# Altium footprint library 19C2830103-JOB.PcbLib: 69 footprints (part 3 of 6)
Each footprint in its own frame and in the unit in brackets; x right, y up, seen from the top. Pads: shape width x height; smd on the part's side, far side on the other; paste and mask are expansions set on the pad; w line width, h text height; cw(c..) or ccw(c..) is an arc to the next point about the centre after c.
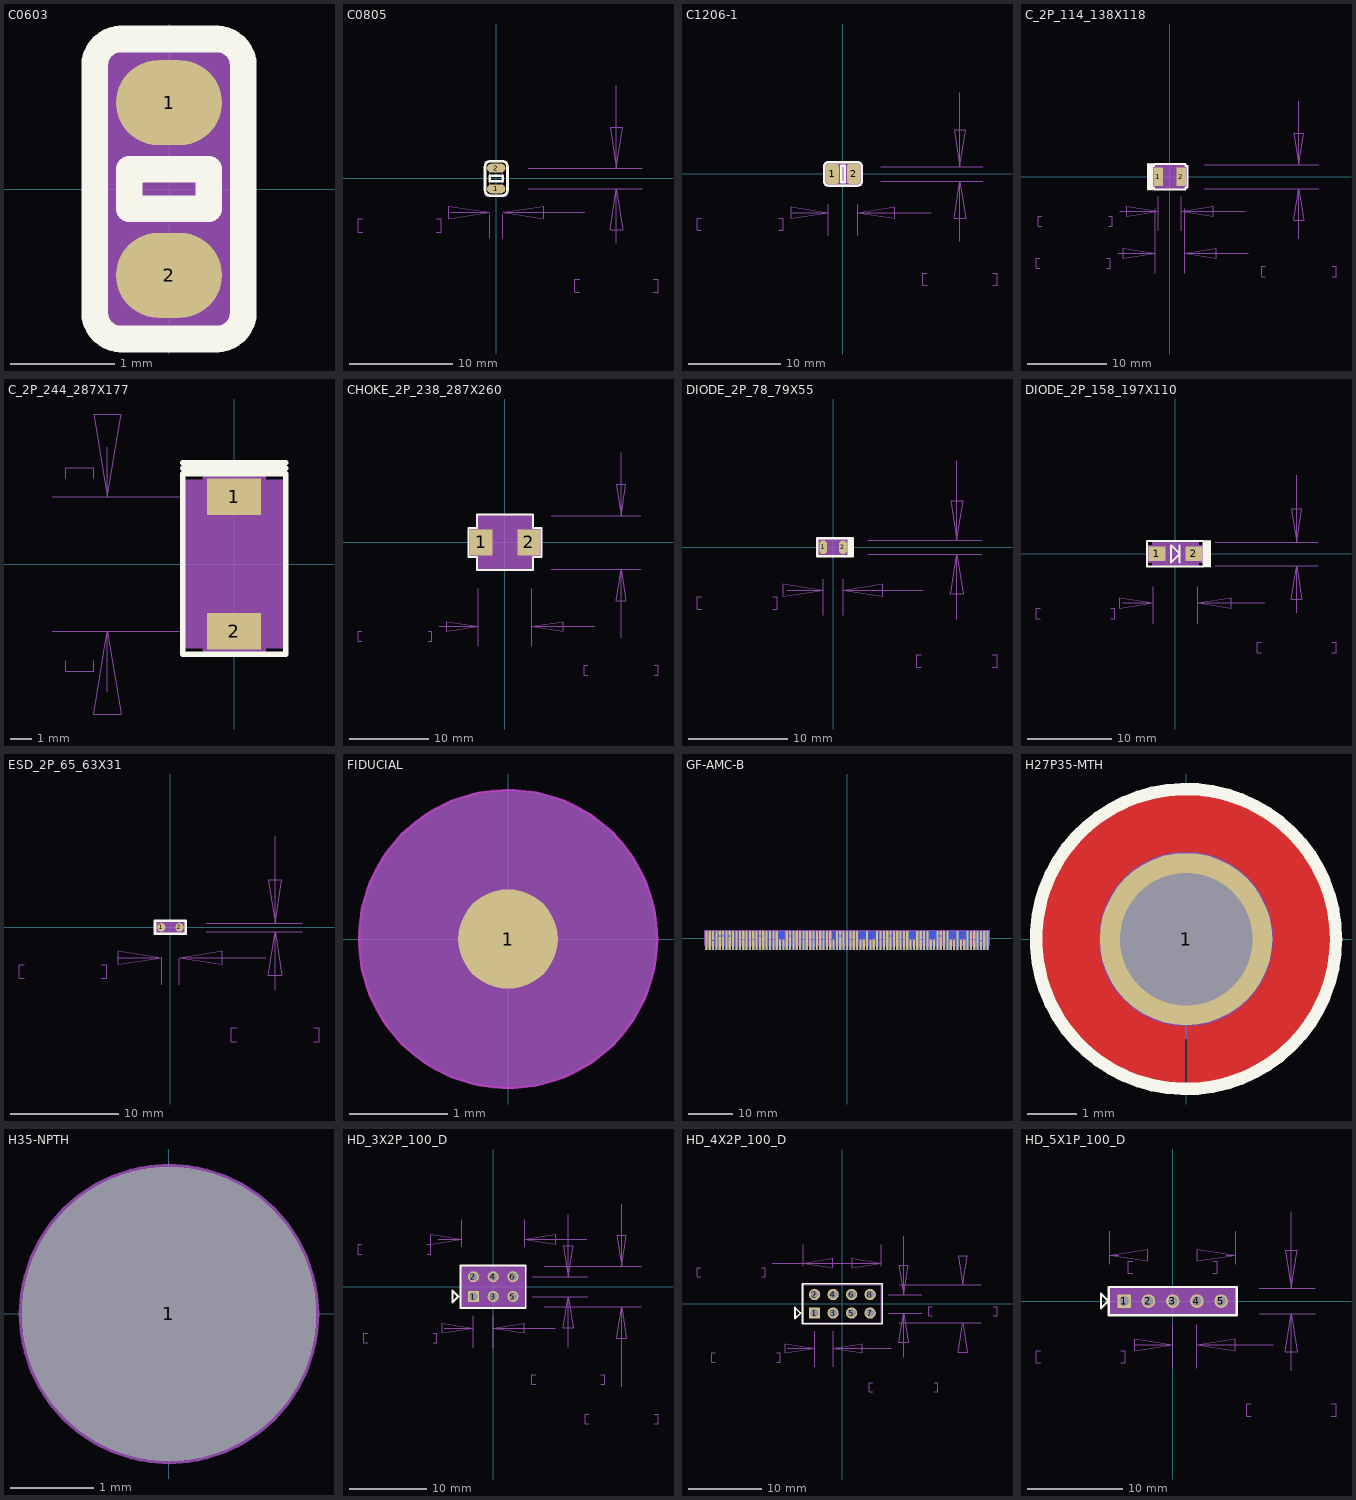
[diagram p2: the footprints below, top view; thin cyan lines are the x and y axes]

## C0603 [mil] "C0603"
pads (2):
  oval 40x32 smd: 1(0,32.5) 2(0,-32.5)
Top Overlay:
  lines w10: -28,-46.5 ccw(c-18,-46.5) -18,-56.5 18,-56.5 ccw(c18,-46.5) 28,-46.5 28,46.5 ccw(c18,46.5) 18,56.5 -18,56.5 ccw(c-18,46.5) -28,46.5 -28,-46.5 ; -15,-7.5 15,-7.5 15,7.5 -15,7.5 -15,-7.5
Mechanical 15:
  text "2" at 0,-43.7 h28
  text "1" at 0,21.3 h28
Mechanical 16:
  pour cut-out: 28,56.5 28,-56.5 -28,-56.5 -28,56.5
  region: -17.13,-33.46 17.13,-33.46 17.13,33.46 -17.13,33.46
  lines w1: -17.13,-33.46 17.13,-33.46 17.13,33.46 -17.13,33.46 -17.13,-33.46
3D body: height 150, standoff 0, extent -17.13,-33.46 17.13,33.46

## C0805 [mil] "C0805"
pads (2):
  oval 70x35 smd: 1(0,-40) 2(0,40)
Top Overlay:
  lines w10: -43,-45.5 ccw(c-23,-45.5) -23,-65.5 23,-65.5 ccw(c23,-45.5) 43,-45.5 43,45.5 ccw(c23,45.5) 23,65.5 -23,65.5 ccw(c-23,45.5) -43,45.5 -43,-45.5 ; -25,-10 -25,10 25,10 25,-10 -25,-10
Mechanical 15:
  text "1" at -11.2,-40 h28
  text "2" at -11.2,40 h28
Mechanical 16:
  lines w1: -510,-205 -529,-205 -529,-155 -510,-155 ; -230,-205 -211,-205 -211,-155 -230,-155 ; -173.5,-130 -24.61,-130 ; -24.61,-228.43 -24.61,-137.8 ; 24.61,-228.43 24.61,-137.8 ; 123.04,-39.37 558.43,-39.37 ; 123.04,39.37 558.43,39.37 ; 320,-435 301,-435 301,-385 320,-385 ; 339.57,-130 24.61,-130 ; 460,-247.5 460,-39.37 ; 460,354.33 460,39.37 ; 600,-435 619,-435 619,-385 600,-385 ; -24.61,-130 -182.09,-154.6 -182.09,-105.4 -24.61,-130 ; -24.61,-39.37 24.61,-39.37 ; -24.61,-39.37 -24.61,39.37 ; -24.61,-39.37 -24.61,39.37 ; -24.61,-39.37 24.61,-39.37 ; -24.61,39.37 24.61,39.37 ; -24.61,39.37 24.61,39.37 ; 24.61,-130 182.09,-105.4 182.09,-154.6 24.61,-130 ; 24.61,-39.37 24.61,39.37 ; 24.61,-39.37 24.61,39.37 ; 460,-39.37 484.6,-196.85 435.4,-196.85 460,-39.37 ; 460,39.37 435.4,196.85 484.6,196.85 460,39.37 ; -43,-65.5 43,-65.5 43,65.5 -43,65.5 -43,-65.5
Mechanical 17:
  text "1.25" at -465.5,-105 h36
  text "49.22" at -491,-205 h36
  text "2" at 441,-335 h36
  text "78.74" at 339,-435 h36

## C1206-1 [mil] "C1206-1"
pads (2):
  rrect36% 55x85 smd: 1(-45.28,0) 2(45.28,0)
Top Overlay:
  lines w10: -80.78,-30.5 ccw(c-60.78,-30.5) -60.78,-50.5 60.78,-50.5 ccw(c60.78,-30.5) 80.78,-30.5 80.78,30.5 ccw(c60.78,30.5) 60.78,50.5 -60.78,50.5 ccw(c-60.78,30.5) -80.78,30.5 -80.78,-30.5 ; -7.87,-35 -7.87,35 7.87,35 7.87,-35 -7.87,-35
Mechanical 15:
  text "2" at 45.28,-10 h25
  text "1" at -45.28,-10 h25
Mechanical 16:
  pour cut-out: -80.78,-50.5 80.78,-50.5 80.78,50.5 -80.78,50.5
  region: -62.99,-31.5 62.99,-31.5 62.99,31.5 -62.99,31.5
  lines w1: -605.45,-240 -624.44,-240 -624.44,-190 -605.45,-190 ; -274.56,-240 -255.57,-240 -255.57,-190 -274.56,-190 ; -218.07,-165 -62.99,-165 ; -62.99,-263.43 -62.99,-129.93 ; 62.99,-263.43 62.99,-129.93 ; 161.42,-31.5 598.43,-31.5 ; 161.42,31.5 598.43,31.5 ; 360.04,-475 341.05,-475 341.05,-425 360.04,-425 ; 377.95,-165 62.99,-165 ; 500,-287.5 500,-31.5 ; 500,346.46 500,31.5 ; 639.95,-475 658.94,-475 658.94,-425 639.95,-425 ; -62.99,-165 -220.47,-189.6 -220.47,-140.4 -62.99,-165 ; 62.99,-165 220.47,-140.4 220.47,-189.6 62.99,-165 ; 500,-31.5 524.6,-188.98 475.4,-188.98 500,-31.5 ; 500,31.5 475.4,188.98 524.6,188.98 500,31.5 ; -62.99,-31.5 -62.99,31.5 62.99,31.5 62.99,-31.5 -62.99,-31.5
Mechanical 17:
  text "3.2" at -509.98,-140 h50
  text "125.98" at -586.45,-240 h50
  text "1.6" at 430.02,-375 h50
  text "63.00" at 379.04,-475 h50
3D body: height 150, standoff 0, extent -62.99,-31.5 62.99,31.5

## C_2P_114_138X118 [mil] "C_2P_114_138X118"
pads (2):
  rect 47x91 smd: 1(-57.02,0) 2(57.02,0)
Top Overlay:
  lines w10: -108.52,-53.5 -108.52,53.5 ; -98.52,-53.5 -98.52,53.5 ; -97.83,-64.06 -97.83,-53.5 ; -97.83,53.5 -97.83,64.06 ; -87.83,-64.06 -87.83,-53.5 ; -87.83,53.5 -87.83,64.06 ; -88.52,-53.5 -77.83,-53.5 ; -88.52,-53.5 -88.52,53.5 ; -88.52,-53.5 -88.52,53.5 ; -88.52,53.5 -77.83,53.5 ; -77.83,-64.06 -77.83,-53.5 ; -77.83,-64.06 77.83,-64.06 77.83,-53.5 88.52,-53.5 88.52,53.5 77.83,53.5 77.83,64.06 -77.83,64.06 ; -77.83,-64.06 -77.83,-53.5 ; -77.83,53.5 -77.83,64.06 ; -77.83,53.5 -77.83,64.06 ; -107.83,-64.06 -107.83,-53.5 -107.83,-64.06 ; -107.83,53.5 -107.83,64.06 -107.83,53.5
Mechanical 15:
  text "1" at -57.02,-10 h25
  text "2" at 57.02,-10 h25
Mechanical 16:
  pour cut-out: 77.83,64.06 77.83,53.5 88.52,53.5 88.52,-53.5 77.83,-53.5 77.83,-64.06 -77.83,-64.06 -77.83,-53.5 -88.52,-53.5 -88.52,53.5 -77.83,53.5 -77.83,64.06
  region: -72.83,-59.06 72.83,-59.06 72.83,59.06 -72.83,59.06
  lines w1: -645.5,-455 -664.5,-455 -664.5,-405 -645.5,-405 ; -635.5,-245 -654.5,-245 -654.5,-195 -635.5,-195 ; -314.5,-455 -295.5,-455 -295.5,-405 -314.5,-405 ; -304.5,-245 -285.5,-245 -285.5,-195 -304.5,-195 ; -258,-380 -72.83,-380 ; -248,-170 -57.02,-170 ; -72.83,-478.43 -72.83,-157.48 ; -57.02,-268.43 -57.02,-98.43 ; 57.02,-268.43 57.02,-98.43 ; 72.83,-478.43 72.83,-157.48 ; 171.26,-59.06 738.43,-59.06 ; 171.26,59.06 738.43,59.06 ; 371.98,-170 57.02,-170 ; 387.8,-380 72.83,-380 ; 474.5,-495 455.5,-495 455.5,-445 474.5,-445 ; 640,-307.5 640,-59.06 ; 640,374.02 640,59.06 ; 805.5,-495 824.5,-495 824.5,-445 805.5,-445 ; -72.83,-380 -230.31,-404.61 -230.31,-355.39 -72.83,-380 ; -57.02,-170 -214.5,-194.61 -214.5,-145.39 -57.02,-170 ; 57.02,-170 214.5,-145.39 214.5,-194.61 57.02,-170 ; 72.83,-380 230.31,-355.39 230.31,-404.61 72.83,-380 ; 640,-59.06 664.61,-216.54 615.39,-216.54 640,-59.06 ; 640,59.06 615.39,216.54 664.61,216.54 640,59.06 ; -72.83,-59.06 -72.83,59.06 72.83,59.06 72.83,-59.06 -72.83,-59.06
Mechanical 17:
  text "2.9" at -540,-145 h50
  text "114.05" at -616.5,-245 h50
  text "3.7" at -550,-355 h50
  text "145.67" at -626.5,-455 h50
  text "3" at 621,-395 h50
  text "118.11" at 493.5,-495 h50
3D body: height 150, standoff 0, extent -72.83,-59.06 72.83,59.06

## C_2P_244_287X177 [mil] "C_2P_244_287X177"
pads (2):
  rect 98x67 smd: 1(0,121.98) 2(0,-121.98)
Top Overlay:
  lines w10: -93.58,173.48 93.58,173.48 ; -93.58,183.48 93.58,183.48 ; -93.58,163.48 93.58,163.48 ; -93.58,163.48 -93.58,-163.48 93.58,-163.48 93.58,163.48 ; -93.58,163.48 93.58,163.48
Mechanical 15:
  text "1" at 10,121.98 h25
  text "2" at 10,-121.98 h25
Mechanical 16:
  pour cut-out: 57,163.48 57,152.64 93.58,152.64 93.58,-152.64 57,-152.64 57,-163.48 -57,-163.48 -57,-152.64 -93.58,-152.64 -93.58,152.64 -57,152.64 -57,163.48
  region: -88.58,147.64 -88.58,-147.64 88.58,-147.64 88.58,147.64
  lines w1: -330,-121.98 -100,-121.98 ; -330,121.98 -100,121.98 ; -305,-175.5 -305,-194.5 -255,-194.5 -255,-175.5 ; -305,155.5 -305,174.5 -255,174.5 -255,155.5 ; -230,-232 -230,-121.98 ; -230,212 -230,121.98 ; -230,-121.98 -205,-271.98 -255,-271.98 -230,-121.98 ; -230,121.98 -255,271.98 -205,271.98 -230,121.98 ; -88.58,-147.64 88.58,-147.64 88.58,147.64 -88.58,147.64 -88.58,-147.64
Mechanical 17:
  text "6.2" at -205,60 h50
  text "243.97" at -305,136.5 h50
3D body: height 150, standoff 0, extent -88.58,-147.64 88.58,147.64

## CHOKE_2P_238_287X260 [mil] "CHOKE_2P_238_287X260"
pads (2):
  rect 112x130 smd: 1(-119.03,0) 2(119.03,0)
Top Overlay:
  lines w10: -183.03,-73 -138.86,-73 -138.86,-138.86 138.86,-138.86 138.86,-73 183.03,-73 183.03,73 138.86,73 138.86,138.86 -138.86,138.86 -138.86,73 -183.03,73 -183.03,-73
Mechanical 15:
  text "1" at -107.83,0 h28
  text "2" at 130.23,0 h28
Mechanical 16:
  pour cut-out: 138.86,138.86 138.86,73 183.03,73 183.03,-73 138.86,-73 138.86,-138.86 -138.86,-138.86 -138.86,-73 -183.03,-73 -183.03,73 -138.86,73 -138.86,138.86
  region: -133.86,-133.86 133.86,-133.86 133.86,133.86 -133.86,133.86
  lines w1: -715.5,-495 -734.5,-495 -734.5,-445 -715.5,-445 ; -384.5,-495 -365.5,-495 -365.5,-445 -384.5,-445 ; -328,-420 -133.86,-420 ; -133.86,-518.43 -133.86,-232.29 ; 133.86,-518.43 133.86,-232.29 ; 232.29,-133.86 678.43,-133.86 ; 232.29,133.86 678.43,133.86 ; 414.5,-665 395.5,-665 395.5,-615 414.5,-615 ; 448.82,-420 133.86,-420 ; 580,-477.5 580,-133.86 ; 580,448.82 580,133.86 ; 745.5,-665 764.5,-665 764.5,-615 745.5,-615 ; -133.86,-420 -291.34,-444.6 -291.34,-395.4 -133.86,-420 ; 133.86,-420 291.34,-395.4 291.34,-444.6 133.86,-420 ; 580,-133.86 604.6,-291.34 555.4,-291.34 580,-133.86 ; 580,133.86 555.4,291.34 604.6,291.34 580,133.86 ; -133.86,-133.86 133.86,-133.86 133.86,133.86 -133.86,133.86 -133.86,-133.86
Mechanical 17:
  text "6.8" at -620,-395 h36
  text "267.72" at -696.5,-495 h36
  text "6.8" at 510,-565 h36
  text "267.72" at 433.5,-665 h36
3D body: height 150, standoff 0, extent -133.86,-133.86 133.86,133.86

## DIODE_2P_78_79X55 [mil] "DIODE_2P_78_79X55"
pads (2):
  oval 31x55 smd: 1(-39.14,0) 2(39.14,0)
Top Overlay:
  lines w10: 67.64,-35.5 67.64,35.5 ; 72.64,-35.5 72.64,35.5 ; 77.64,-35.5 77.64,35.5 ; 62.64,-35.5 62.64,35.5 ; 62.64,-35.5 -62.64,-35.5 -62.64,35.5 62.64,35.5 ; 62.64,-35.5 62.64,35.5
Mechanical 15:
  text "1" at -39.14,11.2 h28
  text "2" at 39.14,11.2 h28
Mechanical 16:
  pour cut-out: -62.64,-35.5 -62.64,35.5 62.64,35.5 62.64,-35.5
  region: -39.37,-27.56 -39.37,27.56 39.37,27.56 39.37,-27.56
  lines w1: -520,-245 -539,-245 -539,-195 -520,-195 ; -240,-245 -221,-245 -221,-195 -240,-195 ; -183.5,-170 -39.37,-170 ; -39.37,-268.43 -39.37,-125.98 ; 39.37,-268.43 39.37,-125.98 ; 137.8,-27.56 588.43,-27.56 ; 137.8,27.56 588.43,27.56 ; 350,-475 331,-475 331,-425 350,-425 ; 354.33,-170 39.37,-170 ; 490,-287.5 490,-27.56 ; 490,342.52 490,27.56 ; 630,-475 649,-475 649,-425 630,-425 ; -39.37,-170 -196.85,-194.61 -196.85,-145.39 -39.37,-170 ; 39.37,-170 196.85,-145.39 196.85,-194.61 39.37,-170 ; 490,-27.56 514.61,-185.04 465.39,-185.04 490,-27.56 ; 490,27.56 465.39,185.04 514.61,185.04 490,27.56 ; -39.37,-27.56 39.37,-27.56 39.37,27.56 -39.37,27.56 -39.37,-27.56
Mechanical 17:
  text "2" at -399,-145 h36
  text "78.74" at -501,-245 h36
  text "1.4" at 420,-375 h36
  text "55.12" at 369,-475 h36
3D body: height 150, standoff 0, extent -39.37,-27.56 39.37,27.56

## DIODE_2P_158_197X110 [mil] "DIODE_2P_158_197X110"
pads (2):
  rect 78x67 smd: 1(-86.45,0) 2(86.45,0)
Top Overlay:
  lines w10: 20,-40 20,40 ; 133.45,-41.5 133.45,41.5 ; 143.45,-59.92 143.45,59.92 ; 153.45,-59.92 153.45,59.92 ; 163.45,-59.92 163.45,59.92 ; -133.45,-59.92 -123.45,-59.92 133.45,-59.92 133.45,-49.92 133.45,59.92 123.45,59.92 -133.45,59.92 -133.45,49.92 -133.45,-59.92 ; -20,-40 -20,40 20,0 -20,-40
Mechanical 15:
  text "2" at 86.45,11.2 h28
  text "1" at -86.45,11.2 h28
Mechanical 16:
  pour cut-out: 109.53,59.92 109.53,41.5 133.45,41.5 133.45,-41.5 109.53,-41.5 109.53,-59.92 -109.53,-59.92 -109.53,-41.5 -133.45,-41.5 -133.45,41.5 -109.53,41.5 -109.53,59.92
  region: -104.53,-54.92 104.53,-54.92 104.53,54.92 -104.53,54.92
  lines w1: -635.5,-305 -654.5,-305 -654.5,-255 -635.5,-255 ; -304.5,-305 -285.5,-305 -285.5,-255 -304.5,-255 ; -248,-230 -104.53,-230 ; -104.53,-328.43 -104.53,-153.35 ; 104.53,-328.43 104.53,-153.35 ; 188.39,-54.92 668.43,-54.92 ; 188.39,54.92 668.43,54.92 ; 404.5,-465 385.5,-465 385.5,-415 404.5,-415 ; 419.49,-230 104.53,-230 ; 570,-277.5 570,-54.92 ; 570,369.88 570,54.92 ; 735.5,-465 754.5,-465 754.5,-415 735.5,-415 ; -104.53,-230 -262.01,-254.61 -262.01,-205.39 -104.53,-230 ; 104.53,-230 262.01,-205.39 262.01,-254.61 104.53,-230 ; 570,-54.92 594.61,-212.4 545.39,-212.4 570,-54.92 ; 570,54.92 545.39,212.4 594.61,212.4 570,54.92 ; -104.53,-54.92 -104.53,54.92 104.53,54.92 104.53,-54.92 -104.53,-54.92
Mechanical 17:
  text "209.06" at -616.5,-305 h36
  text "5.31" at -565.5,-205 h36
  text "109.84" at 423.5,-465 h36
  text "2.79" at 474.5,-365 h36
3D body: height 150, standoff 0, extent -104.53,-54.92 104.53,54.92

## ESD_2P_65_63X31 [mil] "ESD_2P_65_63X31"
pads (2):
  oval 30x31 smd: 1(-32.7,0) 2(32.7,0)
Top Overlay:
  lines w10: -55.7,-23.5 55.7,-23.5 55.7,23.5 -55.7,23.5 -55.7,-23.5
Mechanical 15:
  text "2" at 32.7,11.2 h28
  text "1" at -32.7,11.2 h28
Mechanical 16:
  pour cut-out: -55.7,-23.5 55.7,-23.5 55.7,23.5 -55.7,23.5
  region: -31.5,-15.49 31.5,-15.49 31.5,15.49 -31.5,15.49
  lines w1: -530,-185 -549,-185 -549,-135 -530,-135 ; -250,-185 -231,-185 -231,-135 -250,-135 ; -193.5,-110 -31.5,-110 ; -31.5,-208.43 -31.5,-113.92 ; 31.5,-208.43 31.5,-113.92 ; 129.92,-15.49 478.43,-15.49 ; 129.92,15.49 478.43,15.49 ; 240,-415 221,-415 221,-365 240,-365 ; 346.46,-110 31.5,-110 ; 380,-227.5 380,-15.49 ; 380,330.45 380,15.49 ; 520,-415 539,-415 539,-365 520,-365 ; -31.5,-110 -188.98,-134.61 -188.98,-85.39 -31.5,-110 ; 31.5,-110 188.98,-85.39 188.98,-134.61 31.5,-110 ; 380,-15.49 404.61,-172.97 355.39,-172.97 380,-15.49 ; 380,15.49 355.39,172.97 404.61,172.97 380,15.49 ; -31.5,-15.49 -31.5,15.49 31.5,15.49 31.5,-15.49 -31.5,-15.49
Mechanical 17:
  text "30.98" at 259,-415 h36
  text "0.787" at 259,-315 h36
  text "62.99" at -511,-185 h36
  text "1.6" at -460,-85 h36
3D body: height 150, standoff 0, extent -31.5,-15.49 31.5,15.49

## FIDUCIAL [mil] "FIDUCIAL"
pads (1):
  round 40 smd: 1(0,0)
Top Layer keep-out:
  circle w1: c0,0 r60
Mechanical 15:
  text "1" at -10,-10 h25
Mechanical 16:
  pour cut-out: 60.29,0 59.13,11.76 55.7,23.07 50.13,33.5 42.63,42.63 33.5,50.13 23.07,55.7 11.76,59.13 0,60.29 -11.76,59.13 -23.07,55.7 -33.5,50.13 -42.63,42.63 -50.13,33.5 -55.7,23.07 -59.13,11.76 -60.29,0 -59.13,-11.76 -55.7,-23.07 -50.13,-33.5 -42.63,-42.63 -33.5,-50.13 -23.07,-55.7 -11.76,-59.13 0,-60.29 11.76,-59.13 23.07,-55.7 33.5,-50.13 42.63,-42.63 50.13,-33.5 55.7,-23.07 59.13,-11.76
  pour cut-out: 60.29,0 59.13,11.76 55.7,23.07 50.13,33.5 42.63,42.63 33.5,50.13 23.07,55.7 11.76,59.13 0,60.29 -11.76,59.13 -23.07,55.7 -33.5,50.13 -42.63,42.63 -50.13,33.5 -55.7,23.07 -59.13,11.76 -60.29,0 -59.13,-11.76 -55.7,-23.07 -50.13,-33.5 -42.63,-42.63 -33.5,-50.13 -23.07,-55.7 -11.76,-59.13 0,-60.29 11.76,-59.13 23.07,-55.7 33.5,-50.13 42.63,-42.63 50.13,-33.5 55.7,-23.07 59.13,-11.76
Multi-Layer keep-out:
  circle w1: c0,0 r60
3D body: height 150, standoff 0, extent -60.29,-60.29 60.29,60.29

## GF-AMC-B [mil] "GF-AMC-B"
pads (260):
  rect 19x165 smd: 1(-1240.16,-21.5) 2(-1210.63,-21.5) 4(-1151.57,-21.5) 7(-1062.99,-21.5) 9(-1003.94,-21.5) 10(-974.41,-21.5) 13(-885.83,-21.5) 16(-797.24,-21.5) 18(-738.19,-21.5) 19(-708.66,-21.5) 22(-620.08,-21.5) 25(-531.5,-21.5) 27(-472.44,-21.5) 28(-442.91,-21.5) 31(-354.33,-21.5) 34(-265.75,-21.5) 37(-177.17,-21.5) 40(-88.58,-21.5) 42(-29.53,-21.5) 43(0,-21.5) 46(88.58,-21.5) 49(177.17,-21.5) 52(265.75,-21.5) 55(354.33,-21.5) 57(413.39,-21.5) 58(442.91,-21.5) 61(531.5,-21.5) 64(620.08,-21.5) 67(708.66,-21.5) 70(797.24,-21.5) 72(856.3,-21.5) 73(885.83,-21.5) 76(974.41,-21.5) 79(1062.99,-21.5) 82(1151.57,-21.5) 84(1210.63,-21.5) 85(1240.16,-21.5)
  rect 19x78 smd: 3(-1181.06,-64.93) 83(1181.09,-65.01)
  rect 19x119 smd: 5(-1122.01,-44.52) 6(-1092.49,-44.52) 8(-1033.41,-44.52) 17(-767.8,-44.51) 26(-501.89,-44.43) 41(-59.04,-44.43) 56(383.82,-44.44) 71(826.83,-44.44)
  rect 19x90 smd: 11(-944.88,-59) 12(-915.31,-59) 14(-856.23,-58.99) 15(-826.78,-58.99) 20(-679.06,-58.99) 21(-649.61,-58.99) 23(-590.55,-59) 24(-560.94,-59) 29(-413.39,-59) 30(-383.94,-59) 32(-324.72,-59) 33(-295.28,-59) 35(-236.21,-59) 36(-206.76,-59) 38(-147.71,-59) 39(-118.1,-59) 44(29.47,-59) 45(59.08,-59) 47(118.13,-59) 48(147.58,-59) 50(206.64,-59) 51(236.25,-59) 53(295.31,-59) 54(324.76,-59) 59(472.48,-59) 60(501.93,-59) 62(560.98,-59) 63(590.59,-59) 65(649.65,-59) 66(679.1,-59) 68(738.16,-59) 69(767.77,-59) 74(915.33,-59) 75(944.94,-59) 77(1004,-59) 78(1033.45,-59) 80(1092.51,-59) 81(1122.12,-59)
  rect 19x165 smd far side: 86(1240.16,-21.5) 89(1151.57,-21.5) 92(1062.99,-21.5) 95(974.41,-21.5) 98(885.83,-21.5) 101(797.24,-21.5) 104(708.66,-21.5) 107(620.08,-21.5) 110(531.5,-21.5) 113(442.91,-21.5) 116(354.33,-21.5) 119(265.75,-21.5) 122(177.17,-21.5) 125(88.58,-21.5) 128(0,-21.5) 131(-88.58,-21.5) 134(-177.17,-21.5) 137(-265.75,-21.5) 140(-354.33,-21.5) 143(-442.91,-21.5) 146(-531.5,-21.5) 149(-620.08,-21.5) 152(-708.66,-21.5) 155(-797.24,-21.5) 158(-885.83,-21.5) 161(-974.41,-21.5) 164(-1062.99,-21.5) 170(-1240.16,-21.5)
  rect 19x90 smd far side: 87(1210.62,-59) 88(1181.1,-59) 90(1122.05,-59) 91(1092.52,-59) 93(1033.47,-59) 94(1003.94,-59) 96(944.89,-59) 97(915.36,-59) 99(856.31,-59) 100(826.78,-59) 102(767.69,-59) 103(738.2,-59) 105(679.18,-58.99) 106(649.62,-58.99) 108(590.59,-59) 109(561.03,-59) 111(501.98,-59) 112(472.45,-59) 114(413.42,-59.01) 115(383.84,-59.01) 117(324.77,-58.99) 118(295.26,-58.99) 120(236.2,-59) 121(206.67,-59) 123(147.62,-59) 124(118.08,-59) 126(59.04,-59) 127(29.5,-59) 129(-29.59,-59) 130(-59.1,-59) 132(-118.17,-59) 133(-147.69,-59) 135(-206.71,-59) 136(-236.2,-59) 138(-295.26,-59) 139(-324.78,-59) 141(-383.84,-59) 142(-413.36,-59) 144(-472.45,-59.01) 145(-501.94,-59.01) 147(-561.03,-59) 148(-590.52,-59) 150(-649.58,-59) 151(-679.11,-59) 153(-738.12,-59) 154(-767.69,-59) 156(-826.74,-59) 157(-856.27,-59) 159(-915.3,-59) 160(-944.85,-59) 162(-1003.9,-59) 163(-1033.43,-59)
  rect 19x119 smd far side: 165(-1092.49,-44.51) 166(-1122.01,-44.51) 167(-1151.54,-44.52) 168(-1181.07,-44.52) 169(-1210.59,-44.52)
  rect 19x38 smd far side: " "(-1210.59,41.98) " "(-1181.06,41.98) " "(-1151.54,41.98) " "(-1122.01,41.99) " "(-1092.47,41.99)
  rect 19x79 smd: " "(-1181.14,21.57) " "(1181.11,21.49)
  rect 19x38 smd: " "(-1121.99,41.98) " "(-1092.46,41.98) " "(-1033.41,41.98) " "(-767.72,41.99) " "(-501.89,42.07) " "(-59.04,42.07) " "(383.82,42.06) " "(826.82,42.06)
  rect 19x67 smd far side: " "(-1033.43,27.5) " "(-1003.9,27.5) " "(-944.9,27.5) " "(-915.29,27.5) " "(-856.23,27.5) " "(-826.78,27.5) " "(-767.74,27.5) " "(-738.13,27.5) " "(-679.06,27.5) " "(-649.61,27.5) " "(-590.56,27.5) " "(-560.95,27.5) " "(-501.89,27.49) " "(-472.44,27.49) " "(-413.39,27.5) " "(-383.94,27.5) " "(-324.72,27.5) " "(-295.27,27.5) " "(-236.21,27.5) " "(-206.76,27.5) " "(-147.71,27.5) " "(-118.1,27.5) " "(-59.04,27.5) " "(-29.59,27.5) " "(29.47,27.5) " "(59.08,27.5) " "(118.13,27.5) " "(147.58,27.5) " "(206.64,27.5) " "(236.25,27.5) " "(295.31,27.51) " "(324.76,27.51) " "(383.82,27.49) " "(413.42,27.49) " "(472.49,27.5) " "(501.94,27.5) " "(560.99,27.5) " "(590.6,27.5) " "(649.66,27.51) " "(679.11,27.51) " "(738.16,27.5) " "(767.77,27.5) " "(826.83,27.5) " "(856.28,27.5) " "(915.33,27.5) " "(944.94,27.5) " "(1004,27.5) " "(1033.45,27.5) " "(1092.51,27.5) " "(1122.12,27.5) " "(1181.11,27.5) " "(1210.63,27.5)
  rect 19x67 smd: " "(-944.85,27.5) " "(-915.32,27.5) " "(-856.24,27.51) " "(-826.79,27.51) " "(-679.07,27.51) " "(-649.62,27.51) " "(-413.38,27.5) " "(-383.93,27.5) " "(-324.71,27.5) " "(-295.26,27.5) " "(-236.22,27.5) " "(-206.77,27.5) " "(-147.7,27.5) " "(29.46,27.5) " "(59.07,27.5) " "(295.3,27.5) " "(324.75,27.5) " "(472.48,27.5) " "(501.93,27.5) " "(649.66,27.5) " "(679.11,27.5) " "(1092.5,27.5) " "(1122.11,27.5)
Top Solder:
  pour cut-out: -1263.74,88.78 -1263.74,-100.2 1263.75,-100.2 1263.75,88.78
Bottom Solder:
  pour cut-out: -1263.74,-100.2 1263.75,-100.2 1263.75,88.78 -1263.74,88.78
Mechanical 15:
  text "159" at -910,-139.43 h20
  text "160" at -940,-139.43 h20
  text "129" at -20,-139.48 h20
  text "130" at -50,-139.48 h20
  text "167" at -1140,-140 h20
  text "168" at -1170,-140 h20
  text "166" at -1110,-139.99 h20
  text "165" at -1080,-139.99 h20
  text "169" at -1200,-140 h20
  text "51" at 245,41.64 h20
  text "50" at 215,41.64 h20
  text "45" at 70,41.64 h20
  text "44" at 40,41.64 h20
  text "121" at 215,-139.48 h20
  text "118" at 305,-139.47 h20
  text "111" at 510,-139.44 h20
  text "115" at 390,-139.49 h20
  text "117" at 335,-139.47 h20
  text "112" at 480,-139.44 h20
  text "114" at 420,-139.45 h20
  text "120" at 245,-139.48 h20
  text "4" at -1140,52.5 h20
  text "72" at 870,41.5 h20
  text "57" at 425,41.5 h20
  text "42" at -20,41.5 h20
  text "27" at -460,41.5 h20
  text "18" at -730,41.5 h20
  text "9" at -995,52.5 h20
  text "2" at -1200,52.5 h20
  text "84" at 1220,41.5 h20
  text "139" at -315,-139.44 h20
  text "138" at -285,-139.44 h20
  text "136" at -230,-139.43 h20
  text "135" at -200,-139.48 h20
  text "77" at 1020,41.65 h20
  text "78" at 1050,41.65 h20
  text "74" at 930,41.64 h20
  text "75" at 960,41.64 h20
  text "71" at 840,41.15 h20
  text "56" at 395,41.15 h20
  text "80" at 1105,41.65 h20
  text "81" at 1130,41.65 h20
  text "3" at -1170,52.63 h20
  text "83" at 1190,41.07 h20
  text "26" at -490,41.17 h20
  text "17" at -760,41.09 h20
  text "5" at -1110,52 h20
  text "41" at -50,41.17 h20
  text "82" at 1160,41.5 h20
  text "89" at 1160,-133.5 h20
  text "86" at 1250,-133.5 h20
  text "85" at 1250,41.5 h20
  text "76" at 990,41.5 h20
  text "95" at 980,-133.5 h20
  text "92" at 1070,-133.5 h20
  text "79" at 1080,41.5 h20
  text "67" at 720,41.5 h20
  text "104" at 720,-139.5 h20
  text "70" at 810,41.5 h20
  text "101" at 800,-139.5 h20
  text "73" at 900,41.5 h20
  text "98" at 890,-133.5 h20
  text "64" at 630,41.5 h20
  text "107" at 630,-139.5 h20
  text "58" at 455,41.5 h20
  text "113" at 450,-139.5 h20
  text "61" at 540,41.5 h20
  text "110" at 540,-139.5 h20
  text "116" at 360,-139.5 h20
  text "55" at 365,41.5 h20
  text "52" at 275,41.5 h20
  text "119" at 275,-139.5 h20
  text "125" at 100,-139.5 h20
  text "46" at 100,41.5 h20
  text "134" at -170,-139.5 h20
  text "37" at -170,41.5 h20
  text "40" at -80,41.5 h20
  text "131" at -80,-139.5 h20
  text "128" at 10,-139.5 h20
  text "43" at 10,41.5 h20
  text "137" at -257.82,-138.99 h20
  text "34" at -260,41.5 h20
  text "25" at -520,41.5 h20
  text "146" at -524.46,-138.99 h20
  text "31" at -345,41.5 h20
  text "140" at -347.13,-139.95 h20
  text "28" at -430,41.5 h20
  text "143" at -435.15,-138.03 h20
  text "16" at -790,41.5 h20
  text "155" at -790,-139.5 h20
  text "149" at -611.85,-138.99 h20
  text "22" at -610,41.5 h20
  text "152" at -700,-139.5 h20
  text "19" at -700,41.5 h20
  text "161" at -970,-139.5 h20
  text "10" at -965,41.5 h20
  text "164" at -1052.95,-139.31 h20
  text "7" at -1050,52.5 h20
  text "13" at -875,41.5 h20
  text "158" at -880,-139.5 h20
  text "1" at -1230,52.5 h20
  text "170" at -1230,-139.5 h20
  text "49" at 185,41.5 h20
  text "122" at 185,-139.5 h20
  text "97" at 920,-133.44 h20
  text "96" at 950,-133.44 h20
  text "94" at 1010,-133.44 h20
  text "93" at 1040,-133.44 h20
  text "91" at 1100,-133.44 h20
  text "90" at 1130,-133.44 h20
  text "88" at 1190,-133.44 h20
  text "87" at 1220,-133.44 h20
  text "53" at 305,41.64 h20
  text "54" at 335,41.64 h20
  text "47" at 130,41.64 h20
  text "48" at 160,41.64 h20
  text "109" at 570,-139.44 h20
  text "108" at 600,-139.44 h20
  text "106" at 660,-139.43 h20
  text "105" at 690,-139.43 h20
  text "103" at 750,-139.44 h20
  text "102" at 775,-139.44 h20
  text "100" at 830,-139.44 h20
  text "99" at 860,-133.44 h20
  text "11" at -935,41.6 h20
  text "12" at -905,41.55 h20
  text "14" at -845,41.65 h20
  text "15" at -820,41.65 h20
  text "6" at -1080,52 h20
  text "162" at -995,-139.44 h20
  text "163" at -1025,-139.44 h20
  text "8" at -1025,52 h20
  text "156" at -820,-139.44 h20
  text "157" at -850,-139.44 h20
  text "153" at -730,-139.44 h20
  text "154" at -760,-139.44 h20
  text "148" at -580,-139.44 h20
  text "150" at -640,-139.44 h20
  text "151" at -670,-139.44 h20
  text "23" at -580,41.64 h20
  text "21" at -640,41.65 h20
  text "20" at -670,41.65 h20
  text "145" at -495,-139.44 h20
  text "147" at -550,-139.44 h20
  text "24" at -550,41.64 h20
  text "141" at -375,-139.44 h20
  text "142" at -405,-139.44 h20
  text "144" at -465,-139.44 h20
  text "29" at -405,41.64 h20
  text "30" at -375,41.64 h20
  text "33" at -285,41.64 h20
  text "32" at -315,41.64 h20
  text "36" at -200,41.64 h20
  text "35" at -230,41.64 h20
  text "132" at -110,-139.48 h20
  text "133" at -135,-139.48 h20
  text "39" at -110,41.64 h20
  text "38" at -140,41.64 h20
  text "124" at 125,-139.49 h20
  text "126" at 70,-139.49 h20
  text "127" at 40,-139.48 h20
  text "123" at 155,-139.49 h20
  text "60" at 510,41.64 h20
  text "59" at 480,41.64 h20
  text "63" at 600,41.64 h20
  text "62" at 570,41.64 h20
  text "66" at 690,41.64 h20
  text "65" at 660,41.64 h20
  text "69" at 780,41.64 h20
  text "68" at 750,41.64 h20
Mechanical 16:
  region: -1260,70 -1260,-60 -1250,-70 1250,-70 1260,-60 1260,70
Multi-Layer:
  region: -1263.74,88.78 1263.74,88.78 1263.74,-100.2 -1263.74,-100.2
3D body: height 150, standoff 0, extent -1260,-70 1260,70

## H27P35-MTH [mil] "H27P35-MTH"
pads (1):
  round 138 / inner round 118 / far side round 138 hole 106: 1(0,0)
Top Layer:
  region: -1,-69.99 -1,-120 -11.45,-119.45 -21.82,-118 -32.02,-115.65 -41.98,-112.42 -51.62,-108.33 -60.86,-103.42 -69.65,-97.72 -77.9,-91.28 -85.56,-84.14 -92.56,-76.37 -98.87,-68.01 -104.42,-59.13 -109.18,-49.81 -113.1,-40.1 -116.17,-30.09 -118.35,-19.85 -119.63,-9.46 -120,1 -119.45,11.45 -118,21.82 -115.65,32.02 -112.42,41.98 -108.33,51.62 -103.42,60.86 -97.72,69.65 -91.28,77.9 -84.14,85.56 -76.37,92.56 -68.01,98.87 -59.13,104.42 -49.81,109.18 -40.1,113.1 -30.09,116.17 -19.85,118.35 -9.46,119.63 1,120 11.45,119.45 21.82,118 32.02,115.65 41.98,112.42 51.62,108.33 60.86,103.42 69.65,97.72 77.9,91.28 85.56,84.14 92.56,76.37 98.87,68.01 104.42,59.13 109.18,49.81 113.1,40.1 116.17,30.09 118.35,19.85 119.63,9.46 120,-1 119.45,-11.45 118,-21.82 115.65,-32.02 112.42,-41.98 108.33,-51.62 103.42,-60.86 97.72,-69.65 91.28,-77.9 84.14,-85.56 76.37,-92.56 68.01,-98.87 59.13,-104.42 49.81,-109.18 40.1,-113.1 30.09,-116.17 19.85,-118.35 9.46,-119.63 1,-120 1,-69.99 7.1,-69.64 13.14,-68.76 19.08,-67.35 24.88,-65.43 30.49,-63.01 35.86,-60.12 40.97,-56.76 45.76,-52.97 50.2,-48.79 54.26,-44.22 57.91,-39.33 61.12,-34.13 63.86,-28.67 66.11,-23 67.87,-17.15 69.1,-11.17 69.81,-5.1 69.99,1 69.64,7.1 68.76,13.14 67.35,19.08 65.43,24.88 63.01,30.49 60.12,35.86 56.76,40.97 52.97,45.76 48.79,50.2 44.22,54.26 39.33,57.91 34.13,61.12 28.67,63.86 23,66.11 17.15,67.87 11.17,69.1 5.1,69.81 -1,69.99 -7.1,69.64 -13.14,68.76 -19.08,67.35 -24.88,65.43 -30.49,63.01 -35.86,60.12 -40.97,56.76 -45.76,52.97 -50.2,48.79 -54.26,44.22 -57.91,39.33 -61.12,34.13 -63.86,28.67 -66.11,23 -67.87,17.15 -69.1,11.17 -69.81,5.1 -69.99,-1 -69.64,-7.1 -68.76,-13.14 -67.35,-19.08 -65.43,-24.88 -63.01,-30.49 -60.12,-35.86 -56.76,-40.97 -52.97,-45.76 -48.79,-50.2 -44.22,-54.26 -39.33,-57.91 -34.13,-61.12 -28.67,-63.86 -23,-66.11 -17.15,-67.87 -11.17,-69.1 -5.1,-69.81
Bottom Layer:
  region: -1,-69.99 -1,-120 -11.45,-119.45 -21.82,-118 -32.02,-115.65 -41.98,-112.42 -51.62,-108.33 -60.86,-103.42 -69.65,-97.72 -77.9,-91.28 -85.56,-84.14 -92.56,-76.37 -98.87,-68.01 -104.42,-59.13 -109.18,-49.81 -113.1,-40.1 -116.17,-30.09 -118.35,-19.85 -119.63,-9.46 -120,1 -119.45,11.45 -118,21.82 -115.65,32.02 -112.42,41.98 -108.33,51.62 -103.42,60.86 -97.72,69.65 -91.28,77.9 -84.14,85.56 -76.37,92.56 -68.01,98.87 -59.13,104.42 -49.81,109.18 -40.1,113.1 -30.09,116.17 -19.85,118.35 -9.46,119.63 1,120 11.45,119.45 21.82,118 32.02,115.65 41.98,112.42 51.62,108.33 60.86,103.42 69.65,97.72 77.9,91.28 85.56,84.14 92.56,76.37 98.87,68.01 104.42,59.13 109.18,49.81 113.1,40.1 116.17,30.09 118.35,19.85 119.63,9.46 120,-1 119.45,-11.45 118,-21.82 115.65,-32.02 112.42,-41.98 108.33,-51.62 103.42,-60.86 97.72,-69.65 91.28,-77.9 84.14,-85.56 76.37,-92.56 68.01,-98.87 59.13,-104.42 49.81,-109.18 40.1,-113.1 30.09,-116.17 19.85,-118.35 9.46,-119.63 1,-120 1,-69.99 7.1,-69.64 13.14,-68.76 19.08,-67.35 24.88,-65.43 30.49,-63.01 35.86,-60.12 40.97,-56.76 45.76,-52.97 50.2,-48.79 54.26,-44.22 57.91,-39.33 61.12,-34.13 63.86,-28.67 66.11,-23 67.87,-17.15 69.1,-11.17 69.81,-5.1 69.99,1 69.64,7.1 68.76,13.14 67.35,19.08 65.43,24.88 63.01,30.49 60.12,35.86 56.76,40.97 52.97,45.76 48.79,50.2 44.22,54.26 39.33,57.91 34.13,61.12 28.67,63.86 23,66.11 17.15,67.87 11.17,69.1 5.1,69.81 -1,69.99 -7.1,69.64 -13.14,68.76 -19.08,67.35 -24.88,65.43 -30.49,63.01 -35.86,60.12 -40.97,56.76 -45.76,52.97 -50.2,48.79 -54.26,44.22 -57.91,39.33 -61.12,34.13 -63.86,28.67 -66.11,23 -67.87,17.15 -69.1,11.17 -69.81,5.1 -69.99,-1 -69.64,-7.1 -68.76,-13.14 -67.35,-19.08 -65.43,-24.88 -63.01,-30.49 -60.12,-35.86 -56.76,-40.97 -52.97,-45.76 -48.79,-50.2 -44.22,-54.26 -39.33,-57.91 -34.13,-61.12 -28.67,-63.86 -23,-66.11 -17.15,-67.87 -11.17,-69.1 -5.1,-69.81
Top Overlay:
  circle w10: c0,0 r120
Bottom Overlay:
  circle w10: c0,0 r120
Mechanical 15:
  text "1" at -70,0 h25
Mechanical 16:
  pour cut-out: 80.39,0 78.84,15.68 74.27,30.76 66.84,44.66 56.84,56.84 44.66,66.84 30.76,74.27 15.68,78.84 0,80.39 -15.68,78.84 -30.76,74.27 -44.66,66.84 -56.84,56.84 -66.84,44.66 -74.27,30.76 -78.84,15.68 -80.39,0 -78.84,-15.68 -74.27,-30.76 -66.84,-44.66 -56.84,-56.84 -44.66,-66.84 -30.76,-74.27 -15.68,-78.84 0,-80.39 15.68,-78.84 30.76,-74.27 44.66,-66.84 56.84,-56.84 66.84,-44.66 74.27,-30.76 78.84,-15.68
3D body: height 150, standoff 0, extent -80.39,-80.39 80.39,80.39

## H35-NPTH [mil] "H35-NPTH"
pads (1):
  round 138 hole 138: 1(0,0)
Mechanical 15:
  text "1" at -10,0 h25
Mechanical 16:
  circle w1: c0,0 r70
  pour cut-out: 70.34,0 68.99,13.72 64.98,26.92 58.48,39.08 49.74,49.74 39.08,58.48 26.92,64.98 13.72,68.99 0,70.34 -13.72,68.99 -26.92,64.98 -39.08,58.48 -49.74,49.74 -58.48,39.08 -64.98,26.92 -68.99,13.72 -70.34,0 -68.99,-13.72 -64.98,-26.92 -58.48,-39.08 -49.74,-49.74 -39.08,-58.48 -26.92,-64.98 -13.72,-68.99 0,-70.34 13.72,-68.99 26.92,-64.98 39.08,-58.48 49.74,-49.74 58.48,-39.08 64.98,-26.92 68.99,-13.72
3D body: height 150, standoff 0, extent -70.34,-70.34 70.34,70.34

## HD_3X2P_100_D [mil] "HD_3X2P_100_D"
pads (6):
  rect 56x56 / inner rect 52x52 / far side rect 56x56 hole 40: 1(-100,-50)
  round 56 / inner round 52 / far side round 56 hole 40: 2(-100,50) 3(0,-50) 4(0,50) 5(100,-50) 6(100,50)
Top Overlay:
  lines w10: -206,-80 -176,-50 -206,-20 -206,-80 ; -164.84,-107.95 164.84,-107.95 164.84,107.95 -164.84,107.95 -164.84,-107.95
Mechanical 15:
  text "5" at 100,-40 h25
  text "6" at 100,60 h25
  text "1" at -100,-40 h25
  text "2" at -100,60 h25
  text "3" at 0,-40 h25
  text "4" at 0,60 h25
Mechanical 16:
  pour cut-out: -164.84,-107.95 164.84,-107.95 164.84,107.95 -164.84,107.95
  region: -159.84,-102.95 159.84,-102.95 159.84,102.95 -159.84,102.95
  lines w1: -665.5,165 -684.5,165 -684.5,215 -665.5,215 ; -635.5,-285 -654.5,-285 -654.5,-235 -635.5,-235 ; -334.5,165 -315.5,165 -315.5,215 -334.5,215 ; -304.5,-285 -285.5,-285 -285.5,-235 -304.5,-235 ; -278,240 -159.84,240 ; -248,-210 -100,-210 ; -159.84,201.38 -159.84,338.43 ; -100,-308.43 -100,-148.43 ; 0,-308.43 0,-148.43 ; 159.84,201.38 159.84,338.43 ; 198.43,-50 478.43,-50 ; 198.43,50 478.43,50 ; 214.5,-495 195.5,-495 195.5,-445 214.5,-445 ; 258.27,-102.95 748.43,-102.95 ; 258.27,102.95 748.43,102.95 ; 314.96,-210 0,-210 ; 380,-307.5 380,-50 ; 380,364.96 380,50 ; 474.8,240 159.84,240 ; 484.5,-695 465.5,-695 465.5,-645 484.5,-645 ; 545.5,-495 564.5,-495 564.5,-445 545.5,-445 ; 650,-507.5 650,-102.95 ; 650,417.91 650,102.95 ; 815.5,-695 834.5,-695 834.5,-645 815.5,-645 ; -159.84,240 -317.32,215.39 -317.32,264.61 -159.84,240 ; -100,-210 -257.48,-234.61 -257.48,-185.39 -100,-210 ; 0,-210 157.48,-185.39 157.48,-234.61 0,-210 ; 159.84,240 317.32,264.61 317.32,215.39 159.84,240 ; 380,-50 404.61,-207.48 355.39,-207.48 380,-50 ; 380,50 355.39,207.48 404.61,207.48 380,50 ; 650,-102.95 674.61,-260.43 625.39,-260.43 650,-102.95 ; 650,102.95 625.39,260.43 674.61,260.43 650,102.95 ; -159.84,-102.95 -159.84,102.95 159.84,102.95 159.84,-102.95 -159.84,-102.95
Mechanical 17:
  text "205.91" at 503.5,-695 h50
  text "5.23" at 554.5,-595 h50
  text "319.69" at -646.5,165 h50
  text "8.12" at -595.5,265 h50
  text "100.00" at 233.5,-495 h50
  text "2.54" at 284.5,-395 h50
  text "100.00" at -616.5,-285 h50
  text "2.54" at -565.5,-185 h50
Mechanical 21:
  text ".Designator" at 0,89.6 h28
3D body: height 150, standoff 0, extent -159.84,-102.95 159.84,102.95

## HD_4X2P_100_D [mil] "HD_4X2P_100_D"
pads (8):
  rect 61x61 / inner rect 57x57 / far side rect 61x61 hole 45: 1(-150,-50)
  round 61 / inner round 57 / far side round 61 hole 45: 2(-150,50) 3(-50,-50) 4(-50,50) 5(50,-50) 6(50,50) 7(150,-50) 8(150,50)
Top Overlay:
  lines w10: -256,-80 -256,-20 -226,-50 -256,-80 ; -214.84,-107.95 -214.84,107.95 214.84,107.95 214.84,-107.95 -214.84,-107.95
  text ".Designator" at -119,-155 h36
Mechanical 15:
  text "3" at -61.2,-50 h28
  text "2" at -161.2,50 h28
  text "1" at -161.2,-50 h28
  text "6" at 38.8,50 h28
  text "5" at 38.8,-50 h28
  text "8" at 138.8,50 h28
  text "4" at -61.2,50 h28
  text "7" at 138.8,-50 h28
Mechanical 16:
  lines w1: -765.5,145 -784.5,145 -784.5,195 -765.5,195 ; -685.5,-315 -704.5,-315 -704.5,-265 -685.5,-265 ; -434.5,145 -415.5,145 -415.5,195 -434.5,195 ; -378,220 -209.84,220 ; -354.5,-315 -335.5,-315 -335.5,-265 -354.5,-265 ; -298,-240 -150,-240 ; -209.84,201.38 -209.84,318.43 ; -150,-338.43 -150,-148.43 ; -50,-338.43 -50,-148.43 ; 164.5,-475 145.5,-475 145.5,-425 164.5,-425 ; 209.84,201.38 209.84,318.43 ; 248.43,-50 428.43,-50 ; 248.43,50 428.43,50 ; 264.96,-240 -50,-240 ; 308.27,-102.95 748.43,-102.95 ; 308.27,102.95 748.43,102.95 ; 330,-287.5 330,-50 ; 330,364.96 330,50 ; 484.5,-65 465.5,-65 465.5,-15 484.5,-15 ; 495.5,-475 514.5,-475 514.5,-425 495.5,-425 ; 650,-102.5 650,-102.95 ; 650,122.5 650,102.95 ; 815.5,-65 834.5,-65 834.5,-15 815.5,-15 ; -209.84,-102.95 209.84,-102.95 ; -209.84,-102.95 -209.84,102.95 ; -209.84,-102.95 209.84,-102.95 ; -209.84,-102.95 -209.84,102.95 ; -209.84,102.95 209.84,102.95 ; -209.84,102.95 209.84,102.95 ; -209.84,220 -52.36,244.61 -52.36,195.39 -209.84,220 ; -209.84,220 209.84,220 ; -150,-240 -307.48,-264.61 -307.48,-215.39 -150,-240 ; -50,-240 107.48,-215.39 107.48,-264.61 -50,-240 ; 209.84,-102.95 209.84,102.95 ; 209.84,-102.95 209.84,102.95 ; 209.84,220 52.36,195.39 52.36,244.61 209.84,220 ; 330,-50 354.61,-207.48 305.39,-207.48 330,-50 ; 330,50 305.39,207.48 354.61,207.48 330,50 ; 650,-102.95 674.61,-260.43 625.39,-260.43 650,-102.95 ; 650,102.95 625.39,260.43 674.61,260.43 650,102.95
Mechanical 17:
  text "2.54" at -615.5,-215 h36
  text "100.00" at -666.5,-315 h36
  text "2.54" at 234.5,-375 h36
  text "100.00" at 183.5,-475 h36
  text "10.66" at -721,245 h36
  text "419.69" at -746.5,145 h36
  text "5.23" at 554.5,35 h36
  text "205.91" at 503.5,-65 h36

## HD_5X1P_100_D [mil] "HD_5X1P_100_D"
pads (5):
  rect 56x56 / inner rect 52x52 / far side rect 56x56 hole 40: 1(-200,0)
  round 56 / inner round 52 / far side round 56 hole 40: 2(-100,0) 3(0,0) 4(100,0) 5(200,0)
Top Overlay:
  lines w10: -296,-30 -266,0 -296,30 -296,-30 ; -264.84,-57.95 264.84,-57.95 264.84,57.95 -264.84,57.95 -264.84,-57.95
Mechanical 15:
  text "2" at -100,-10 h25
  text "4" at 100,-10 h25
  text "1" at -200,-10 h25
  text "3" at 0,-10 h25
  text "5" at 200,-10 h25
Mechanical 16:
  pour cut-out: -264.84,-57.95 264.84,-57.95 264.84,57.95 -264.84,57.95
  region: -259.84,-52.95 259.84,-52.95 259.84,52.95 -259.84,52.95
  lines w1: -545.5,-255 -564.5,-255 -564.5,-205 -545.5,-205 ; -259.84,151.38 -259.84,288.43 ; -222,190 -259.84,190 ; -214.5,-255 -195.5,-255 -195.5,-205 -214.5,-205 ; -165.5,115 -184.5,115 -184.5,165 -165.5,165 ; -158,-180 0,-180 ; 0,-278.43 0,-98.43 ; 100,-278.43 100,-98.43 ; 165.5,115 184.5,115 184.5,165 165.5,165 ; 222,190 259.84,190 ; 259.84,151.38 259.84,288.43 ; 324.5,-475 305.5,-475 305.5,-425 324.5,-425 ; 358.27,-52.95 588.43,-52.95 ; 358.27,52.95 588.43,52.95 ; 414.96,-180 100,-180 ; 490,-287.5 490,-52.95 ; 490,367.91 490,52.95 ; 655.5,-475 674.5,-475 674.5,-425 655.5,-425 ; -259.84,190 -102.36,214.61 -102.36,165.39 -259.84,190 ; 0,-180 -157.48,-204.61 -157.48,-155.39 0,-180 ; 100,-180 257.48,-155.39 257.48,-204.61 100,-180 ; 259.84,190 102.36,165.39 102.36,214.61 259.84,190 ; 490,-52.95 514.61,-210.43 465.39,-210.43 490,-52.95 ; 490,52.95 465.39,210.43 514.61,210.43 490,52.95 ; -259.84,-52.95 -259.84,52.95 259.84,52.95 259.84,-52.95 -259.84,-52.95
Mechanical 17:
  text "105.91" at 343.5,-475 h50
  text "2.69" at 394.5,-375 h50
  text "519.69" at -146.5,115 h50
  text "13.2" at -95.5,215 h50
  text "100.00" at -526.5,-255 h50
  text "2.54" at -475.5,-155 h50
Mechanical 21:
  text ".Designator" at -5,-53.87 h28
3D body: height 150, standoff 0, extent -259.84,-52.95 259.84,52.95